# Altium footprint library PCB - POWER MODULE - EVISUN SIP-4.PCBLIB: 1 footprints
Each footprint in its own frame and in the unit in brackets; x right, y up, seen from the top. Pads: shape width x height; smd on the part's side, far side on the other; paste and mask are expansions set on the pad; w line width, h text height; cw(c..) or ccw(c..) is an arc to the next point about the centre after c.
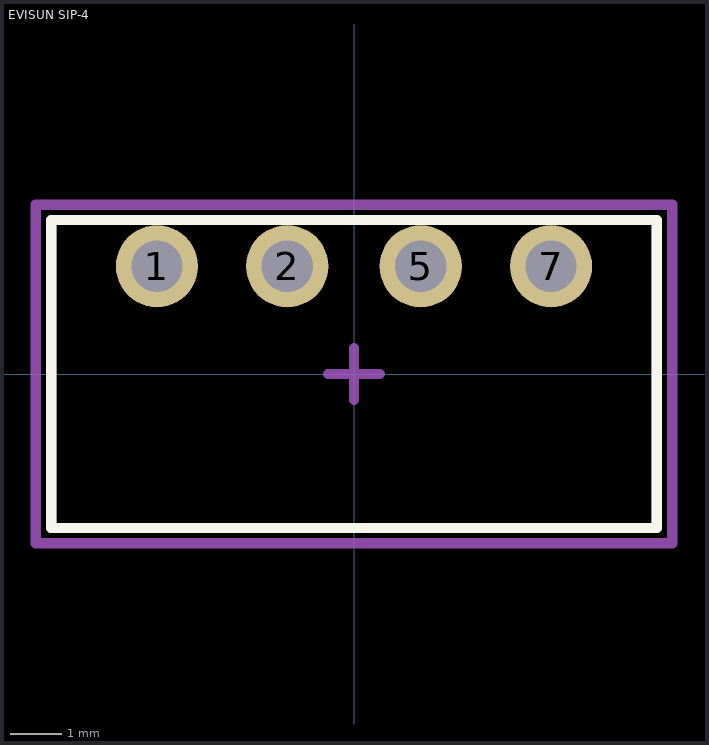
[diagram p0: the footprint, top view; thin cyan lines are the x and y axes]

## EVISUN SIP-4 [mm] "1.5kVDC Isolated 1W DC-DC Converters"
height 12.75
pads (4):
  round 1.6 hole 1: 1(-3.84,2.1) 2(-1.3,2.1) 5(1.3,2.1) 7(3.84,2.1)
Top Overlay:
  lines w0.2: -5.9,-3 -5.9,3 5.9,3 5.9,-3 -5.9,-3
Top Assembly:
  lines w0.2: -0.5,0 0.5,0 ; 0,-0.5 0,0.5 ; -5.9,-3 -5.9,3 5.9,3 5.9,-3 -5.9,-3
Top Courtyard (Mech15):
  lines w0.2: -6.2,-3.3 -6.2,3.3 6.2,3.3 6.2,-3.3 -6.2,-3.3
3D body: height 10.2, standoff 0, extent -5.9,-3 5.9,3